# EAGLE library part DRV8434SPWPR (library TI DRV)
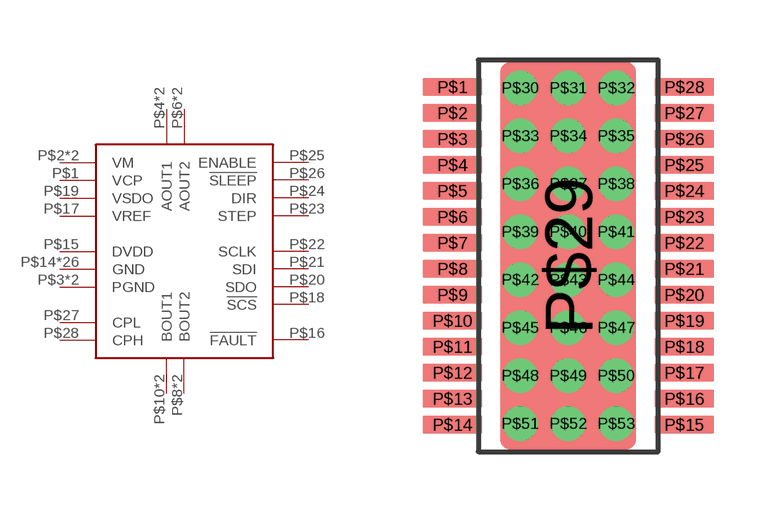
[diagram p0: symbol with the pads of HTSSOP(PWP)-28; footprint HTSSOP(PWP)-28]

Designator prefix U

## DRV8434SPWPR  [HTSSOP(PWP)-28]
P$1  VCP
P$2  VM
P$3  PGND
P$4  AOUT1
P$5  AOUT1
P$6  AOUT2
P$7  AOUT2
P$8  BOUT2
P$9  BOUT2
P$10  BOUT1
P$11  BOUT1
P$12  PGND
P$13  VM
P$14  GND
P$15  DVDD
P$16  !FAULT
P$17  VREF
P$18  !SCS
P$19  VSDO
P$20  SDO
P$21  SDI
P$22  SCLK
P$23  STEP
P$24  DIR
P$25  ENABLE
P$26  !SLEEP
P$27  CPL
P$28  CPH
P$29  GND
P$30  GND
P$31  GND
P$32  GND
P$33  GND
P$34  GND
P$35  GND
P$36  GND
P$37  GND
P$38  GND
P$39  GND
P$40  GND
P$41  GND
P$42  GND
P$43  GND
P$44  GND
P$45  GND
P$46  GND
P$47  GND
P$48  GND
P$49  GND
P$50  GND
P$51  GND
P$52  GND
P$53  GND

## Footprint HTSSOP(PWP)-28 (pad centres in mm)
smd 1.5 x 0.45: P$1 -2.9,4.225; P$2 -2.9,3.575; P$3 -2.9,2.925; P$4 -2.9,2.275; P$5 -2.9,1.625; P$6 -2.9,0.975; P$7 -2.9,0.325; P$8 -2.9,-0.325; P$9 -2.9,-0.975; P$10 -2.9,-1.625; P$11 -2.9,-2.275; P$12 -2.9,-2.925; P$13 -2.9,-3.575; P$14 -2.9,-4.225; P$15 2.9,-4.225; P$16 2.9,-3.575; P$17 2.9,-2.925; P$18 2.9,-2.275; P$19 2.9,-1.625; P$20 2.9,-0.975; P$21 2.9,-0.325; P$22 2.9,0.325; P$23 2.9,0.975; P$24 2.9,1.625; P$25 2.9,2.275; P$26 2.9,2.925; P$27 2.9,3.575; P$28 2.9,4.225
smd 3.4 x 9.7: P$29 0,0
drill 0.35 pad 0.406: P$30 -1.2,4.2; P$31 0,4.2; P$32 1.2,4.2; P$33 -1.2,3; P$34 0,3; P$35 1.2,3; P$36 -1.2,1.8; P$37 0,1.8; P$38 1.2,1.8; P$39 -1.2,0.6; P$40 0,0.6; P$41 1.2,0.6; P$42 -1.2,-0.6; P$43 0,-0.6; P$44 1.2,-0.6; P$45 -1.2,-1.8; P$46 0,-1.8; P$47 1.2,-1.8; P$48 -1.2,-3; P$49 0,-3; P$50 1.2,-3; P$51 -1.2,-4.2; P$52 0,-4.2; P$53 1.2,-4.2